# Altium integrated library Celestial Library.IntLib: 439 symbols (part 1 of 20)
Pins are listed as number, name and electrical type; pins without a type are passive.

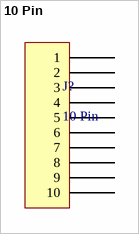
[diagram p0: symbol 10 Pin]

## 10 Pin
designator J?
pins: 1, 2, 3, 4, 5, 6, 7, 8, 9, 10


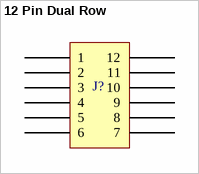
[diagram p1: symbol 12 Pin Dual Row]

## 12 Pin Dual Row
designator J?
pins: 1, 2, 3, 4, 5, 6, 7, 8, 9, 10, 11, 12


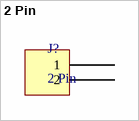
[diagram p2: symbol 2 Pin]

## 2 Pin
designator J?
pins: 1, 2


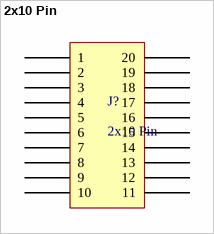
[diagram p3: symbol 2x10 Pin]

## 2x10 Pin
designator J?
pins: 1, 2, 3, 4, 5, 6, 7, 8, 9, 10, 11, 12, 13, 14, 15, 16, 17, 18, 19, 20


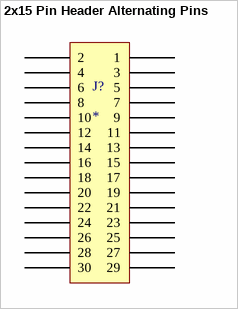
[diagram p4: symbol 2x15 Pin Header Alternating Pins]

## 2x15 Pin Header Alternating Pins
designator J?
pins: 1, 2, 3, 4, 5, 6, 7, 8, 9, 10, 11, 12, 13, 14, 15, 16, 17, 18, 19, 20, 21, 22, 23, 24, 25, 26, 27, 28, 29, 30


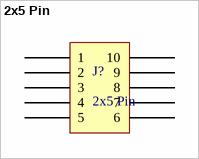
[diagram p5: symbol 2x5 Pin]

## 2x5 Pin
designator J?
pins: 1, 2, 3, 4, 5, 6, 7, 8, 9, 10


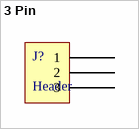
[diagram p6: symbol 3 Pin]

## 3 Pin
designator J?, comment Header
pins: 1, 2, 3


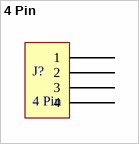
[diagram p7: symbol 4 Pin]

## 4 Pin
designator J?
pins: 1, 2, 3, 4


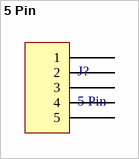
[diagram p8: symbol 5 Pin]

## 5 Pin
designator J?
pins: 1, 2, 3, 4, 5


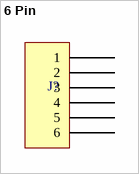
[diagram p9: symbol 6 Pin]

## 6 Pin
designator J?
pins: 1, 2, 3, 4, 5, 6


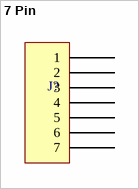
[diagram p10: symbol 7 Pin]

## 7 Pin
designator J?
pins: 1, 2, 3, 4, 5, 6, 7


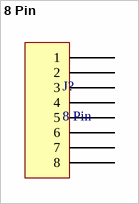
[diagram p11: symbol 8 Pin]

## 8 Pin
designator J?
pins: 1, 2, 3, 4, 5, 6, 7, 8


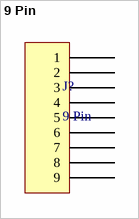
[diagram p12: symbol 9 Pin]

## 9 Pin
designator J?
pins: 1, 2, 3, 4, 5, 6, 7, 8, 9


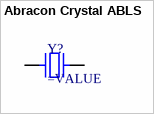
[diagram p13: symbol Abracon Crystal ABLS]

## Abracon Crystal ABLS
designator Y?
SMT Crystal
pins: 1, 2


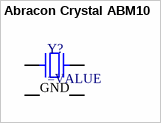
[diagram p14: symbol Abracon Crystal ABM10]

## Abracon Crystal ABM10
designator Y?
SMT Crystal
pins: 1, 2 GND, 3, 4 GND


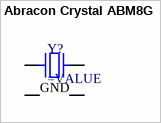
[diagram p15: symbol Abracon Crystal ABM8G]

## Abracon Crystal ABM8G
designator Y?
SMT Crystal
pins: 1, 2 GND, 3, 4 GND


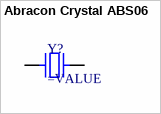
[diagram p16: symbol Abracon Crystal ABS06]

## Abracon Crystal ABS06
designator Y?
SMT Crystal
pins: 1, 2


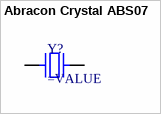
[diagram p17: symbol Abracon Crystal ABS07]

## Abracon Crystal ABS07
designator Y?
SMT Crystal
pins: 1, 2


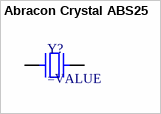
[diagram p18: symbol Abracon Crystal ABS25]

## Abracon Crystal ABS25
designator Y?
SMT Crystal
pins: 1, 4


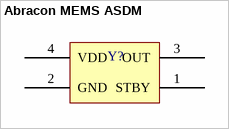
[diagram p19: symbol Abracon MEMS ASDM]

## Abracon MEMS ASDM
designator Y?
Pure Silicon Clock Oscillator
pins: 1 STBY, 2 GND, 3 OUT, 4 VDD


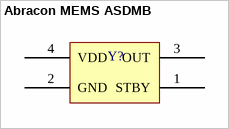
[diagram p20: symbol Abracon MEMS ASDMB]

## Abracon MEMS ASDMB
designator Y?
Pure Silicon Clock Oscillator
pins: 1 STBY, 2 GND, 3 OUT, 4 VDD


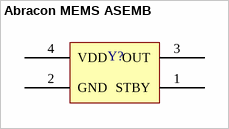
[diagram p21: symbol Abracon MEMS ASEMB]

## Abracon MEMS ASEMB
designator Y?
Pure Silicon Clock Oscillator
pins: 1 STBY, 2 GND, 3 OUT, 4 VDD


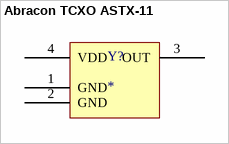
[diagram p22: symbol Abracon TCXO ASTX-11]

## Abracon TCXO ASTX-11
designator Y?
SMD CMOS Crystal Oscillator
pins: 1 GND, 2 GND, 3 OUT, 4 VDD
